# Altium integrated library TI Interface Line Transceiver.IntLib: 631 symbols (part 11 of 17)
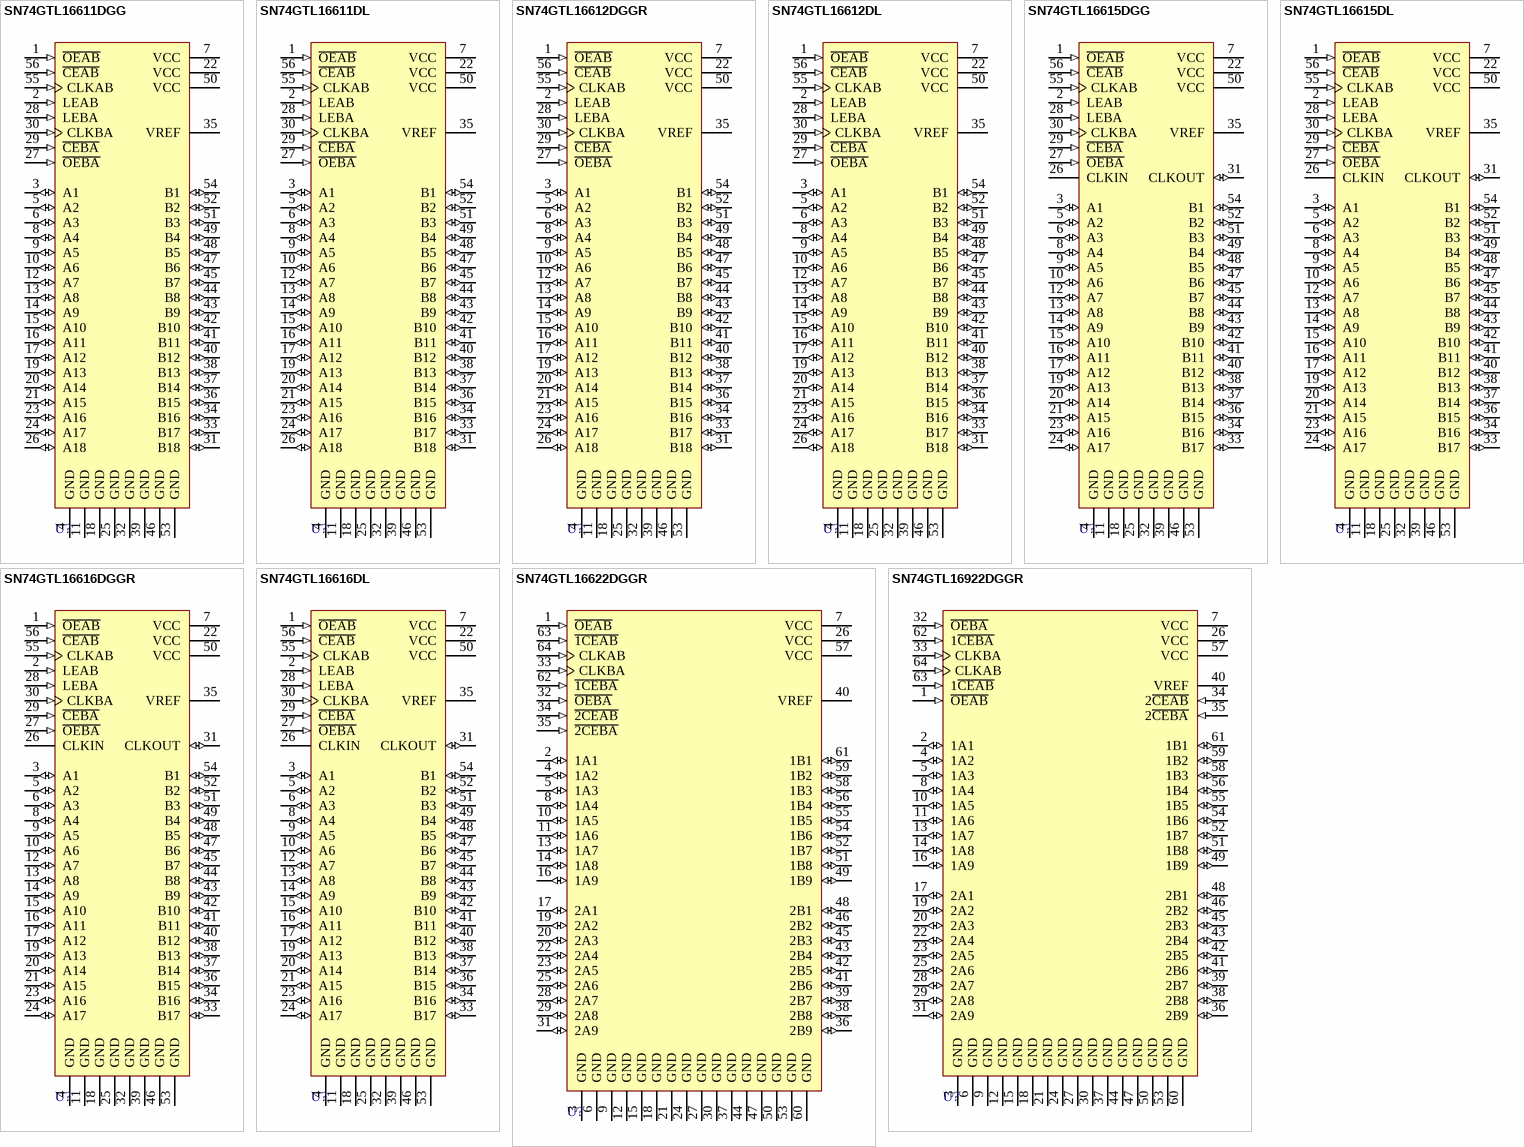
[diagram p49: symbols SN74GTL16611DGG to SN74GTL16922DGGR]

## SN74GTL16612DGGR
designator U?
18-Bit LVTTL-to-GTL/GTL + Universal Bus Transceiver; Published: 8-Jun-2000; LatestRevisionDate: 04-Mar-2005; LatestRevisionNote: Stylized 3D Model Added.; DatasheetVersion: Nov-1998; PackageVersion: Jan-1998; PackageReference: DGG056; Publisher: Altium Limited; PackageDescription: Shrink Small Outline; 56 Leads; Body Width 6.1 mm; Pitch 0.5 mm; ComponentLink1Description: Manufacturer Link; ComponentLink1URL: http://www.ti.com/; ComponentLink2Description: Datasheet; ComponentLink2URL: http://www-s.ti.com/sc/ds/sn74gtl16612.pdf
footprint DGG056 (Shrink Small Outline; 56 Leads; Body Width 6.1 mm; Pitch 0.5 mm)
3D model DGG056 (Shrink Small Outline; 56 Leads; Body Width 6.1 mm; Pitch 0.5 mm)
signal-integrity model SN74GTL16612DGGR
pins: 1 ~{OEAB} (in), 2 LEAB (in), 3 A1 (io), 4 GND (power), 5 A2 (io), 6 A3 (io), 7 VCC (power), 8 A4 (io), 9 A5 (io), 10 A6 (io), 11 GND (power), 12 A7 (io), 13 A8 (io), 14 A9 (io), 15 A10 (io), 16 A11 (io), 17 A12 (io), 18 GND (power), 19 A13 (io), 20 A14 (io), 21 A15 (io), 22 VCC (power), 23 A16 (io), 24 A17 (io), 25 GND (power), 26 A18 (io), 27 ~{OEBA} (in), 28 LEBA (in), 29 ~{CEBA} (in), 30 CLKBA (in), 31 B18 (io), 32 GND (power), 33 B17 (io), 34 B16 (io), 35 VREF (power), 36 B15 (io), 37 B14 (io), 38 B13 (io), 39 GND (power), 40 B12 (io), 41 B11 (io), 42 B10 (io), 43 B9 (io), 44 B8 (io), 45 B7 (io), 46 GND (power), 47 B6 (io), 48 B5 (io), 49 B4 (io), 50 VCC (power), 51 B3 (io), 52 B2 (io), 53 GND (power), 54 B1 (io), 55 CLKAB (in), 56 ~{CEAB} (in)

## SN74GTL16612DL
designator U?
18-Bit LVTTL-to-GTL/GTL + Universal Bus Transceiver; Published: 8-Jun-2000; LatestRevisionDate: 04-Mar-2005; LatestRevisionNote: Stylized 3D Model Added.; DatasheetVersion: Nov-1998; PackageVersion: Dec-2001; PackageReference: DL056; Publisher: Altium Limited; PackageDescription: SSOP; 56 Leads; Body Width 7.5 mm; Pitch 0.635 mm; Code_JEDEC: MO-118-AB; Code_IPC: SSO56; ComponentLink1Description: Manufacturer Link; ComponentLink1URL: http://www.ti.com/; ComponentLink2Description: Datasheet; ComponentLink2URL: http://www-s.ti.com/sc/ds/sn74gtl16612.pdf
footprint DL056 (SSOP; 56 Leads; Body Width 7.5 mm; Pitch 0.635 mm)
3D model DL056 (SSOP; 56 Leads; Body Width 7.5 mm; Pitch 0.635 mm)
signal-integrity model SN74GTL16612DL
pins: 1 ~{OEAB} (in), 2 LEAB (in), 3 A1 (io), 4 GND (power), 5 A2 (io), 6 A3 (io), 7 VCC (power), 8 A4 (io), 9 A5 (io), 10 A6 (io), 11 GND (power), 12 A7 (io), 13 A8 (io), 14 A9 (io), 15 A10 (io), 16 A11 (io), 17 A12 (io), 18 GND (power), 19 A13 (io), 20 A14 (io), 21 A15 (io), 22 VCC (power), 23 A16 (io), 24 A17 (io), 25 GND (power), 26 A18 (io), 27 ~{OEBA} (in), 28 LEBA (in), 29 ~{CEBA} (in), 30 CLKBA (in), 31 B18 (io), 32 GND (power), 33 B17 (io), 34 B16 (io), 35 VREF (power), 36 B15 (io), 37 B14 (io), 38 B13 (io), 39 GND (power), 40 B12 (io), 41 B11 (io), 42 B10 (io), 43 B9 (io), 44 B8 (io), 45 B7 (io), 46 GND (power), 47 B6 (io), 48 B5 (io), 49 B4 (io), 50 VCC (power), 51 B3 (io), 52 B2 (io), 53 GND (power), 54 B1 (io), 55 CLKAB (in), 56 ~{CEAB} (in)

## SN74GTL16615DGG
designator U?
17-Bit GTL/LVT Universal Bus Transceiver with Buffered Clock Outputs; Published: 8-Jun-2000; LatestRevisionDate: 04-Mar-2005; LatestRevisionNote: Stylized 3D Model Added.; DatasheetVersion: Mar-1994; PackageVersion: Jan-1998; PackageReference: DGG056; Publisher: Altium Limited; PackageDescription: Shrink Small Outline; 56 Leads; Body Width 6.1 mm; Pitch 0.5 mm; ComponentLink1Description: Manufacturer Link; ComponentLink1URL: http://www.ti.com/
footprint DGG056 (Shrink Small Outline; 56 Leads; Body Width 6.1 mm; Pitch 0.5 mm)
3D model DGG056 (Shrink Small Outline; 56 Leads; Body Width 6.1 mm; Pitch 0.5 mm)
signal-integrity model SN74GTL16615DGG
pins: 1 ~{OEAB} (in), 2 LEAB (in), 3 A1 (io), 4 GND (power), 5 A2 (io), 6 A3 (io), 7 VCC (power), 8 A4 (io), 9 A5 (io), 10 A6 (io), 11 GND (power), 12 A7 (io), 13 A8 (io), 14 A9 (io), 15 A10 (io), 16 A11 (io), 17 A12 (io), 18 GND (power), 19 A13 (io), 20 A14 (io), 21 A15 (io), 22 VCC (power), 23 A16 (io), 24 A17 (io), 25 GND (power), 26 CLKIN (hiz), 27 ~{OEBA} (in), 28 LEBA (in), 29 ~{CEBA} (in), 30 CLKBA (in), 31 CLKOUT (io), 32 GND (power), 33 B17 (io), 34 B16 (io), 35 VREF (power), 36 B15 (io), 37 B14 (io), 38 B13 (io), 39 GND (power), 40 B12 (io), 41 B11 (io), 42 B10 (io), 43 B9 (io), 44 B8 (io), 45 B7 (io), 46 GND (power), 47 B6 (io), 48 B5 (io), 49 B4 (io), 50 VCC (power), 51 B3 (io), 52 B2 (io), 53 GND (power), 54 B1 (io), 55 CLKAB (in), 56 ~{CEAB} (in)

## SN74GTL16615DL
designator U?
17-Bit GTL/LVT Universal Bus Transceiver with Buffered Clock Outputs; Published: 8-Jun-2000; LatestRevisionDate: 04-Mar-2005; LatestRevisionNote: Stylized 3D Model Added.; DatasheetVersion: Mar-1994; PackageVersion: Dec-2001; PackageReference: DL056; Publisher: Altium Limited; PackageDescription: SSOP; 56 Leads; Body Width 7.5 mm; Pitch 0.635 mm; Code_JEDEC: MO-118-AB; Code_IPC: SSO56; ComponentLink1Description: Manufacturer Link; ComponentLink1URL: http://www.ti.com/
footprint DL056 (SSOP; 56 Leads; Body Width 7.5 mm; Pitch 0.635 mm)
3D model DL056 (SSOP; 56 Leads; Body Width 7.5 mm; Pitch 0.635 mm)
signal-integrity model SN74GTL16615DL
pins: 1 ~{OEAB} (in), 2 LEAB (in), 3 A1 (io), 4 GND (power), 5 A2 (io), 6 A3 (io), 7 VCC (power), 8 A4 (io), 9 A5 (io), 10 A6 (io), 11 GND (power), 12 A7 (io), 13 A8 (io), 14 A9 (io), 15 A10 (io), 16 A11 (io), 17 A12 (io), 18 GND (power), 19 A13 (io), 20 A14 (io), 21 A15 (io), 22 VCC (power), 23 A16 (io), 24 A17 (io), 25 GND (power), 26 CLKIN (hiz), 27 ~{OEBA} (in), 28 LEBA (in), 29 ~{CEBA} (in), 30 CLKBA (in), 31 CLKOUT (io), 32 GND (power), 33 B17 (io), 34 B16 (io), 35 VREF (power), 36 B15 (io), 37 B14 (io), 38 B13 (io), 39 GND (power), 40 B12 (io), 41 B11 (io), 42 B10 (io), 43 B9 (io), 44 B8 (io), 45 B7 (io), 46 GND (power), 47 B6 (io), 48 B5 (io), 49 B4 (io), 50 VCC (power), 51 B3 (io), 52 B2 (io), 53 GND (power), 54 B1 (io), 55 CLKAB (in), 56 ~{CEAB} (in)

## SN74GTL16616DGGR
designator U?
17-Bit GTL/LVT Universal Bus Transceiver with Buffered Clock Outputs; Published: 8-Jun-2000; LatestRevisionDate: 04-Mar-2005; LatestRevisionNote: Stylized 3D Model Added.; DatasheetVersion: Nov-1998; PackageVersion: Jan-1998; PackageReference: DGG056; Publisher: Altium Limited; PackageDescription: Shrink Small Outline; 56 Leads; Body Width 6.1 mm; Pitch 0.5 mm; ComponentLink1Description: Manufacturer Link; ComponentLink1URL: http://www.ti.com/; ComponentLink2Description: Datasheet; ComponentLink2URL: http://www-s.ti.com/sc/ds/sn74gtl16616.pdf
footprint DGG056 (Shrink Small Outline; 56 Leads; Body Width 6.1 mm; Pitch 0.5 mm)
3D model DGG056 (Shrink Small Outline; 56 Leads; Body Width 6.1 mm; Pitch 0.5 mm)
signal-integrity model SN74GTL16616DGGR
pins: 1 ~{OEAB} (in), 2 LEAB (in), 3 A1 (io), 4 GND (power), 5 A2 (io), 6 A3 (io), 7 VCC (power), 8 A4 (io), 9 A5 (io), 10 A6 (io), 11 GND (power), 12 A7 (io), 13 A8 (io), 14 A9 (io), 15 A10 (io), 16 A11 (io), 17 A12 (io), 18 GND (power), 19 A13 (io), 20 A14 (io), 21 A15 (io), 22 VCC (power), 23 A16 (io), 24 A17 (io), 25 GND (power), 26 CLKIN (hiz), 27 ~{OEBA} (in), 28 LEBA (in), 29 ~{CEBA} (in), 30 CLKBA (in), 31 CLKOUT (io), 32 GND (power), 33 B17 (io), 34 B16 (io), 35 VREF (power), 36 B15 (io), 37 B14 (io), 38 B13 (io), 39 GND (power), 40 B12 (io), 41 B11 (io), 42 B10 (io), 43 B9 (io), 44 B8 (io), 45 B7 (io), 46 GND (power), 47 B6 (io), 48 B5 (io), 49 B4 (io), 50 VCC (power), 51 B3 (io), 52 B2 (io), 53 GND (power), 54 B1 (io), 55 CLKAB (in), 56 ~{CEAB} (in)

## SN74GTL16616DL
designator U?
17-Bit GTL/LVT Universal Bus Transceiver with Buffered Clock Outputs; Published: 8-Jun-2000; LatestRevisionDate: 04-Mar-2005; LatestRevisionNote: Stylized 3D Model Added.; DatasheetVersion: Nov-1998; PackageVersion: Dec-2001; PackageReference: DL056; Publisher: Altium Limited; PackageDescription: SSOP; 56 Leads; Body Width 7.5 mm; Pitch 0.635 mm; Code_JEDEC: MO-118-AB; Code_IPC: SSO56; ComponentLink1Description: Manufacturer Link; ComponentLink1URL: http://www.ti.com/; ComponentLink2Description: Datasheet; ComponentLink2URL: http://www-s.ti.com/sc/ds/sn74gtl16616.pdf
footprint DL056 (SSOP; 56 Leads; Body Width 7.5 mm; Pitch 0.635 mm)
3D model DL056 (SSOP; 56 Leads; Body Width 7.5 mm; Pitch 0.635 mm)
signal-integrity model SN74GTL16616DL
pins: 1 ~{OEAB} (in), 2 LEAB (in), 3 A1 (io), 4 GND (power), 5 A2 (io), 6 A3 (io), 7 VCC (power), 8 A4 (io), 9 A5 (io), 10 A6 (io), 11 GND (power), 12 A7 (io), 13 A8 (io), 14 A9 (io), 15 A10 (io), 16 A11 (io), 17 A12 (io), 18 GND (power), 19 A13 (io), 20 A14 (io), 21 A15 (io), 22 VCC (power), 23 A16 (io), 24 A17 (io), 25 GND (power), 26 CLKIN (hiz), 27 ~{OEBA} (in), 28 LEBA (in), 29 ~{CEBA} (in), 30 CLKBA (in), 31 CLKOUT (io), 32 GND (power), 33 B17 (io), 34 B16 (io), 35 VREF (power), 36 B15 (io), 37 B14 (io), 38 B13 (io), 39 GND (power), 40 B12 (io), 41 B11 (io), 42 B10 (io), 43 B9 (io), 44 B8 (io), 45 B7 (io), 46 GND (power), 47 B6 (io), 48 B5 (io), 49 B4 (io), 50 VCC (power), 51 B3 (io), 52 B2 (io), 53 GND (power), 54 B1 (io), 55 CLKAB (in), 56 ~{CEAB} (in)

## SN74GTL16622DGGR
designator U?
18-Bit LVTTL-to-GTL/GTL + Transceiver; ComponentAvailability: Obsolete; Published: 8-Jun-2000; LatestRevisionDate: 04-Mar-2005; LatestRevisionNote: Stylized 3D Model Added.; DatasheetVersion: Oct-1996; PackageVersion: Jan-1998; PackageReference: DGG064; Publisher: Altium Limited; PackageDescription: Shrink Small Outline; 64 Leads; Body Width 6.1 mm; Pitch 0.5 mm; ComponentLink1Description: Manufacturer Link; ComponentLink1URL: http://www.ti.com/; ComponentLink2Description: Datasheet; ComponentLink2URL: http://www-s.ti.com/sc/ds/sn74gtl16622.pdf
footprint DGG064 (Shrink Small Outline; 64 Leads; Body Width 6.1 mm; Pitch 0.5 mm)
3D model DGG064 (Shrink Small Outline; 64 Leads; Body Width 6.1 mm; Pitch 0.5 mm)
signal-integrity model SN74GTL16622DGGR
pins: 1 ~{OEAB} (in), 2 1A1 (io), 3 GND (power), 4 1A2 (io), 5 1A3 (io), 6 GND (power), 7 VCC (power), 8 1A4 (io), 9 GND (power), 10 1A5 (io), 11 1A6 (io), 12 GND (power), 13 1A7 (io), 14 1A8 (io), 15 GND (power), 16 1A9 (io), 17 2A1 (io), 18 GND (power), 19 2A2 (io), 20 2A3 (io), 21 GND (power), 22 2A4 (io), 23 2A5 (io), 24 GND (power), 25 2A6 (io), 26 VCC (power), 27 GND (power), 28 2A7 (io), 29 2A8 (io), 30 GND (power), 31 2A9 (io), 32 ~{OEBA} (in), 33 CLKBA (in), 34 ~{2CEAB} (in), 35 ~{2CEBA} (in), 36 2B9 (io), 37 GND (power), 38 2B8 (io), 39 2B7 (io), 40 VREF (power), 41 2B6 (io), 42 2B5 (io), 43 2B4 (io), 44 GND (power), 45 2B3 (io), 46 2B2 (io), 47 GND (power), 48 2B1 (io), 49 1B9 (io), 50 GND (power), 51 1B8 (io), 52 1B7 (io), 53 GND (power), 54 1B6 (io), 55 1B5 (io), 56 1B4 (io), 57 VCC (power), 58 1B3 (io), 59 1B2 (io), 60 GND (power), 61 1B1 (io), 62 ~{1CEBA} (in), 63 ~{1CEAB} (in), 64 CLKAB (in)

## SN74GTL16922DGGR
designator U?
18-Bit LVTTL-to-GTL/GTL + Bus Transceiver; Published: 8-Jun-2000; LatestRevisionDate: 04-Mar-2005; LatestRevisionNote: Stylized 3D Model Added.; DatasheetVersion: Nov-1996; PackageVersion: Jan-1998; PackageReference: DGG064; Publisher: Altium Limited; PackageDescription: Shrink Small Outline; 64 Leads; Body Width 6.1 mm; Pitch 0.5 mm; ComponentLink1Description: Manufacturer Link; ComponentLink1URL: http://www.ti.com/
footprint DGG064 (Shrink Small Outline; 64 Leads; Body Width 6.1 mm; Pitch 0.5 mm)
3D model DGG064 (Shrink Small Outline; 64 Leads; Body Width 6.1 mm; Pitch 0.5 mm)
signal-integrity model SN74GTL16922DGGR
pins: 1 ~{OEAB} (in), 2 1A1 (io), 3 GND (power), 4 1A2 (io), 5 1A3 (io), 6 GND (power), 7 VCC (power), 8 1A4 (io), 9 GND (power), 10 1A5 (io), 11 1A6 (io), 12 GND (power), 13 1A7 (io), 14 1A8 (io), 15 GND (power), 16 1A9 (io), 17 2A1 (io), 18 GND (power), 19 2A2 (io), 20 2A3 (io), 21 GND (power), 22 2A4 (io), 23 2A5 (io), 24 GND (power), 25 2A6 (io), 26 VCC (power), 27 GND (power), 28 2A7 (io), 29 2A8 (io), 30 GND (power), 31 2A9 (io), 32 ~{OEBA} (in), 33 CLKBA (in), 34 2~{CEAB} (in), 35 2~{CEBA} (in), 36 2B9 (io), 37 GND (power), 38 2B8 (io), 39 2B7 (io), 40 VREF (power), 41 2B6 (io), 42 2B5 (io), 43 2B4 (io), 44 GND (power), 45 2B3 (io), 46 2B2 (io), 47 GND (power), 48 2B1 (io), 49 1B9 (io), 50 GND (power), 51 1B8 (io), 52 1B7 (io), 53 GND (power), 54 1B6 (io), 55 1B5 (io), 56 1B4 (io), 57 VCC (power), 58 1B3 (io), 59 1B2 (io), 60 GND (power), 61 1B1 (io), 62 1~{CEBA} (in), 63 1~{CEAB} (in), 64 CLKAB (in)

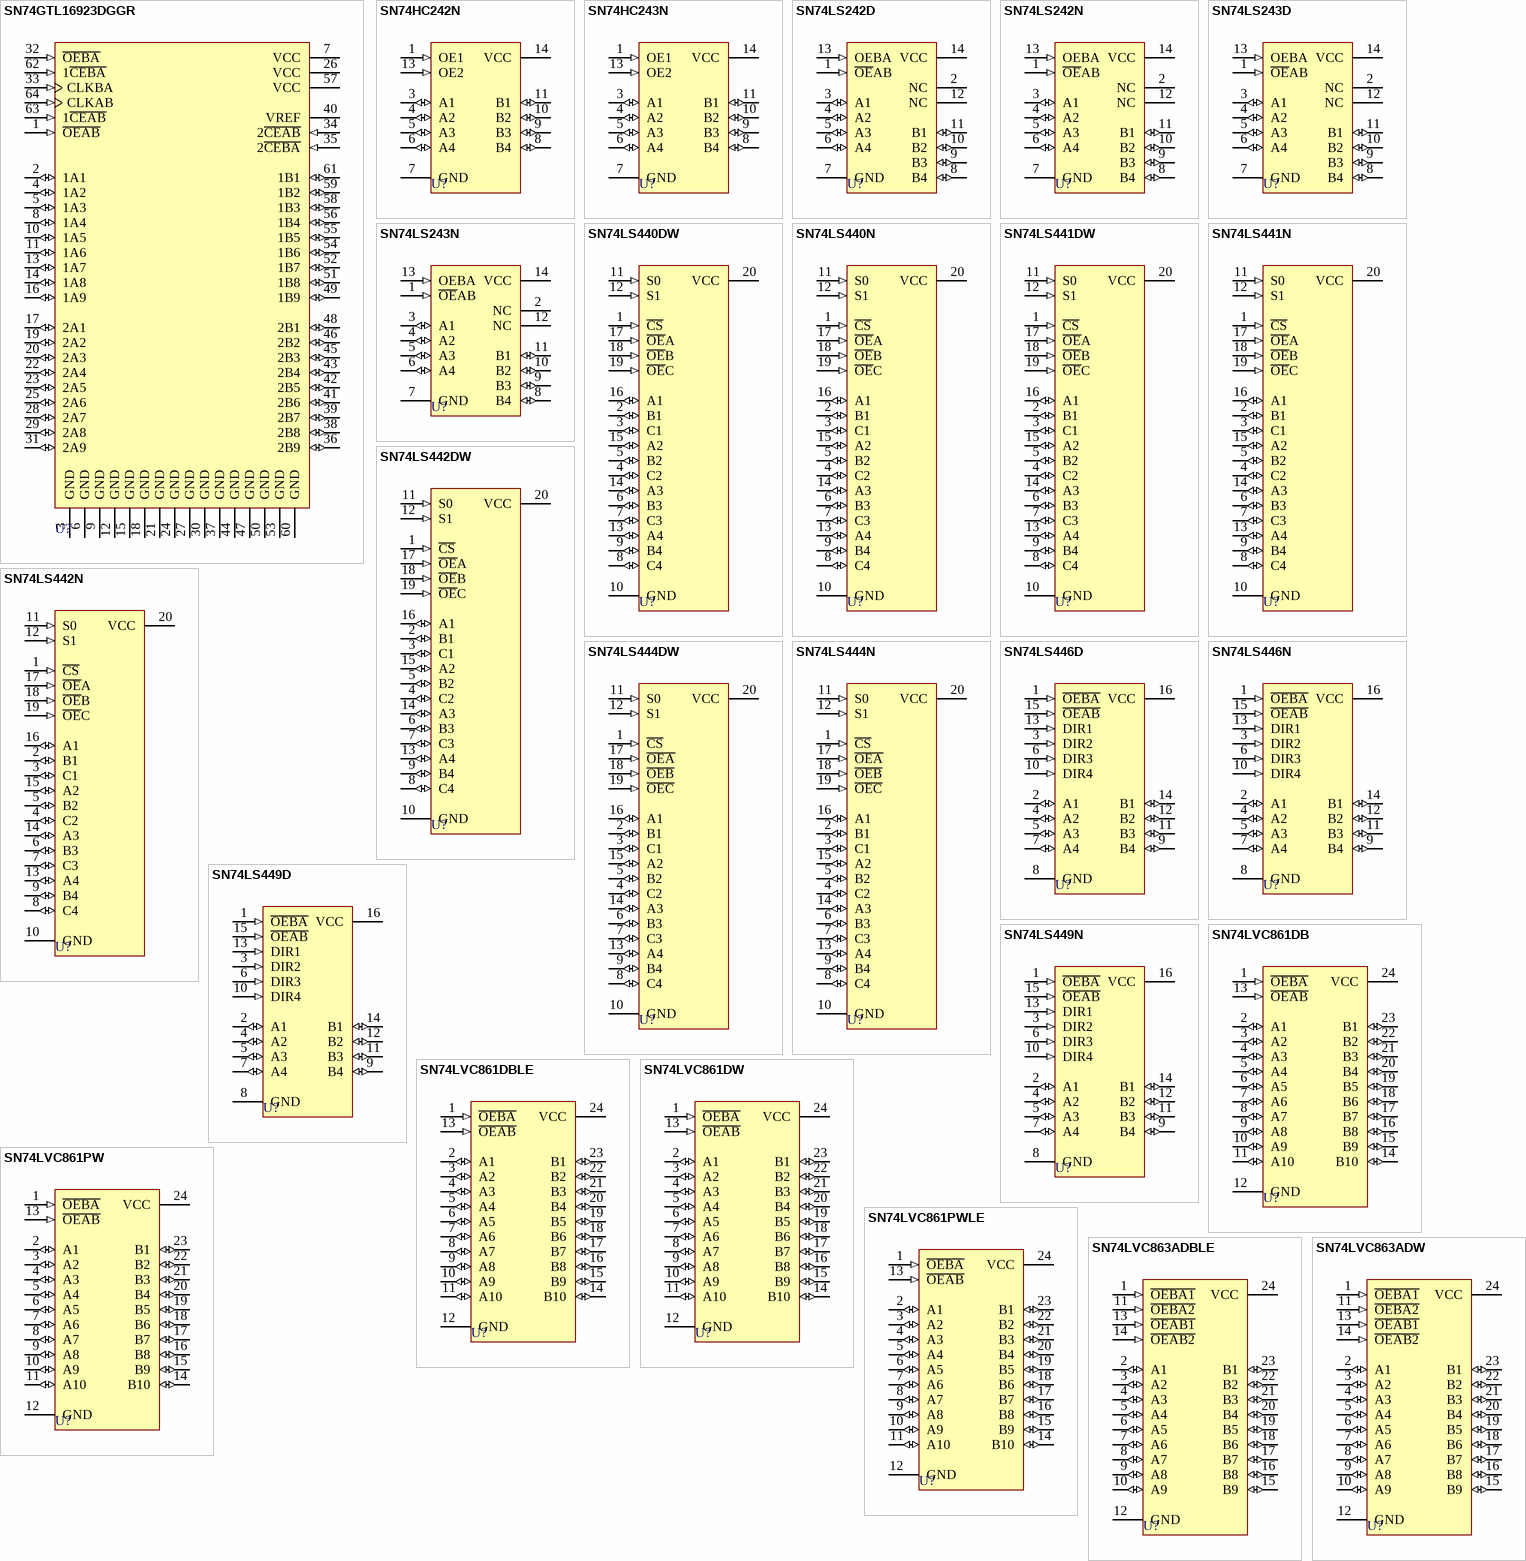
[diagram p24: symbols SN74GTL16923DGGR to SN74LVC863ADW]

## SN74GTL16923DGGR
designator U?
18-Bit LVTTL-to-GTL/GTLL +  Bus Transceiver; Published: 8-Jun-2000; LatestRevisionDate: 04-Mar-2005; LatestRevisionNote: Stylized 3D Model Added.; DatasheetVersion: Jul-1997; PackageVersion: Jan-1998; PackageReference: DGG064; Publisher: Altium Limited; PackageDescription: Shrink Small Outline; 64 Leads; Body Width 6.1 mm; Pitch 0.5 mm; ComponentLink1Description: Manufacturer Link; ComponentLink1URL: http://www.ti.com/; ComponentLink2Description: Datasheet; ComponentLink2URL: http://www-s.ti.com/sc/ds/sn74gtl16923.pdf
footprint DGG064 (Shrink Small Outline; 64 Leads; Body Width 6.1 mm; Pitch 0.5 mm)
3D model DGG064 (Shrink Small Outline; 64 Leads; Body Width 6.1 mm; Pitch 0.5 mm)
signal-integrity model SN74GTL16923DGGR
pins: 1 ~{OEAB} (in), 2 1A1 (io), 3 GND (power), 4 1A2 (io), 5 1A3 (io), 6 GND (power), 7 VCC (power), 8 1A4 (io), 9 GND (power), 10 1A5 (io), 11 1A6 (io), 12 GND (power), 13 1A7 (io), 14 1A8 (io), 15 GND (power), 16 1A9 (io), 17 2A1 (io), 18 GND (power), 19 2A2 (io), 20 2A3 (io), 21 GND (power), 22 2A4 (io), 23 2A5 (io), 24 GND (power), 25 2A6 (io), 26 VCC (power), 27 GND (power), 28 2A7 (io), 29 2A8 (io), 30 GND (power), 31 2A9 (io), 32 ~{OEBA} (in), 33 CLKBA (in), 34 2~{CEAB} (in), 35 2~{CEBA} (in), 36 2B9 (io), 37 GND (power), 38 2B8 (io), 39 2B7 (io), 40 VREF (power), 41 2B6 (io), 42 2B5 (io), 43 2B4 (io), 44 GND (power), 45 2B3 (io), 46 2B2 (io), 47 GND (power), 48 2B1 (io), 49 1B9 (io), 50 GND (power), 51 1B8 (io), 52 1B7 (io), 53 GND (power), 54 1B6 (io), 55 1B5 (io), 56 1B4 (io), 57 VCC (power), 58 1B3 (io), 59 1B2 (io), 60 GND (power), 61 1B1 (io), 62 1~{CEBA} (in), 63 1~{CEAB} (in), 64 CLKAB (in)

## SN74HC242N
designator U?
Quadruple Bus Transceiver with 3-State Outputs; Note: Pins 2 and 12 are not connected; Published: 8-Jun-2000; LatestRevisionDate: 04-Mar-2005; LatestRevisionNote: Stylized 3D Model Added.; DatasheetVersion: Jun-1989; PackageVersion: Oct-1995; PackageReference: N014D; Publisher: Altium Limited; PackageDescription: DIP; 14 Leads; Row Spacing 7.62 mm; Pitch 2.54 mm; ComponentLink1Description: Manufacturer Link; ComponentLink1URL: http://www.ti.com/
footprint N014D (DIP; 14 Leads; Row Spacing 7.62 mm; Pitch 2.54 mm)
3D model N014 (DIP; 14 Leads; Row Spacing 7.62 mm; Pitch 2.54 mm)
signal-integrity model SN74HC242N
pins: 1 OE1 (in), 3 A1 (io), 4 A2 (io), 5 A3 (io), 6 A4 (io), 7 GND (power), 8 B4 (io), 9 B3 (io), 10 B2 (io), 11 B1 (io), 13 OE2 (in), 14 VCC (power)

## SN74HC243N
designator U?
Quadruple Bus Transceiver with 3-State Outputs; Note: Pins 2 and 12 are not connected; Published: 8-Jun-2000; LatestRevisionDate: 04-Mar-2005; LatestRevisionNote: Stylized 3D Model Added.; DatasheetVersion: Jun-1989; PackageVersion: Oct-1995; PackageReference: N014D; Publisher: Altium Limited; PackageDescription: DIP; 14 Leads; Row Spacing 7.62 mm; Pitch 2.54 mm; ComponentLink1Description: Manufacturer Link; ComponentLink1URL: http://www.ti.com/
footprint N014D (DIP; 14 Leads; Row Spacing 7.62 mm; Pitch 2.54 mm)
3D model N014 (DIP; 14 Leads; Row Spacing 7.62 mm; Pitch 2.54 mm)
signal-integrity model SN74HC243N
pins: 1 OE1 (in), 3 A1 (io), 4 A2 (io), 5 A3 (io), 6 A4 (io), 7 GND (power), 8 B4 (io), 9 B3 (io), 10 B2 (io), 11 B1 (io), 13 OE2 (in), 14 VCC (power)

## SN74LS242D
designator U?
Quadruple Bus Transceiver; Note: Pins 2 and 12 are NC.; ComponentAvailability: Obsolete; Published: 8-Jun-2000; LatestRevisionDate: 13-Apr-2006; LatestRevisionNote: IPC-7351 Footprint Added.; DatasheetVersion: Mar-1988; PackageVersion: Jan-1998; PackageReference: D014; Publisher: Altium Limited; PackageDescription: 14-Pin Small Outline Integrated Circuit 1.27 mm Pitch; Code_IPC: SOIC127P600-14; ComponentLink1Description: Manufacturer Link; ComponentLink1URL: http://www.ti.com/; ComponentLink2Description: Datasheet; ComponentLink2URL: http://www-s.ti.com/sc/ds/sn74ls242.pdf
footprint D014_N (SOIC, 14-Leads, Body 8.7x3.9mm, Pitch 1.27mm, IPC Medium Density)
footprint D014_L (SOIC, 14-Leads, Body 8.7x3.9mm, Pitch 1.27mm, IPC High Density)
footprint D014_M (SOIC, 14-Leads, Body 8.7x3.9mm, Pitch 1.27mm, IPC Low Density)
3D model D014 (14-Pin Small Outline Integrated Circuit 1.27 mm Pitch)
simulation model SN74LS242 (SIMCODE)
signal-integrity model SN74LS242D
pins: 1 ~{OE}AB (in), 2 NC, 3 A1 (io), 4 A2 (io), 5 A3 (io), 6 A4 (io), 7 GND (power), 8 B4 (io), 9 B3 (io), 10 B2 (io), 11 B1 (io), 12 NC, 13 OEBA (in), 14 VCC (power)

## SN74LS242N
designator U?
Quadruple Bus Transceiver; Note: Pins 2 and 12 are NC.; ComponentAvailability: Obsolete; Published: 8-Jun-2000; LatestRevisionDate: 04-Mar-2005; LatestRevisionNote: Stylized 3D Model Added.; DatasheetVersion: Mar-1988; PackageVersion: Oct-1995; PackageReference: N014; Publisher: Altium Limited; PackageDescription: DIP; 14 Leads; Row Spacing 7.62 mm; Pitch 2.54 mm; ComponentLink1Description: Manufacturer Link; ComponentLink1URL: http://www.ti.com/; ComponentLink2Description: Datasheet; ComponentLink2URL: http://www-s.ti.com/sc/ds/sn74ls242.pdf
footprint N014 (DIP; 14 Leads; Row Spacing 7.62 mm; Pitch 2.54 mm)
3D model N014 (DIP; 14 Leads; Row Spacing 7.62 mm; Pitch 2.54 mm)
simulation model SN74LS242 (SIMCODE)
signal-integrity model SN74LS242N
pins: 1 ~{OE}AB (in), 2 NC, 3 A1 (io), 4 A2 (io), 5 A3 (io), 6 A4 (io), 7 GND (power), 8 B4 (io), 9 B3 (io), 10 B2 (io), 11 B1 (io), 12 NC, 13 OEBA (in), 14 VCC (power)

## SN74LS243D
designator U?
Quadruple Bus Transceiver; Note: Pins 2 and 12 are NC.; Published: 8-Jun-2000; LatestRevisionDate: 13-Apr-2006; LatestRevisionNote: IPC-7351 Footprint Added.; DatasheetVersion: Mar-1988; PackageVersion: Jan-1998; PackageReference: D014; Publisher: Altium Limited; PackageDescription: 14-Pin Small Outline Integrated Circuit 1.27 mm Pitch; Code_IPC: SOIC127P600-14; ComponentLink1Description: Manufacturer Link; ComponentLink1URL: http://www.ti.com/; ComponentLink2Description: Datasheet; ComponentLink2URL: http://www-s.ti.com/sc/ds/sn74ls242.pdf
footprint D014_N (SOIC, 14-Leads, Body 8.7x3.9mm, Pitch 1.27mm, IPC Medium Density)
footprint D014_L (SOIC, 14-Leads, Body 8.7x3.9mm, Pitch 1.27mm, IPC High Density)
footprint D014_M (SOIC, 14-Leads, Body 8.7x3.9mm, Pitch 1.27mm, IPC Low Density)
3D model D014 (14-Pin Small Outline Integrated Circuit 1.27 mm Pitch)
simulation model SN74LS243 (SIMCODE)
signal-integrity model SN74LS243D
pins: 1 ~{OE}AB (in), 2 NC, 3 A1 (io), 4 A2 (io), 5 A3 (io), 6 A4 (io), 7 GND (power), 8 B4 (io), 9 B3 (io), 10 B2 (io), 11 B1 (io), 12 NC, 13 OEBA (in), 14 VCC (power)

## SN74LS243N
designator U?
Quadruple Bus Transceiver; Note: Pins 2 and 12 are NC.; Published: 8-Jun-2000; LatestRevisionDate: 04-Mar-2005; LatestRevisionNote: Stylized 3D Model Added.; DatasheetVersion: Mar-1988; PackageVersion: Oct-1995; PackageReference: N014; Publisher: Altium Limited; PackageDescription: DIP; 14 Leads; Row Spacing 7.62 mm; Pitch 2.54 mm; ComponentLink1Description: Manufacturer Link; ComponentLink1URL: http://www.ti.com/; ComponentLink2Description: Datasheet; ComponentLink2URL: http://www-s.ti.com/sc/ds/sn74ls242.pdf
footprint N014 (DIP; 14 Leads; Row Spacing 7.62 mm; Pitch 2.54 mm)
3D model N014 (DIP; 14 Leads; Row Spacing 7.62 mm; Pitch 2.54 mm)
simulation model SN74LS243 (SIMCODE)
signal-integrity model SN74LS243N
pins: 1 ~{OE}AB (in), 2 NC, 3 A1 (io), 4 A2 (io), 5 A3 (io), 6 A4 (io), 7 GND (power), 8 B4 (io), 9 B3 (io), 10 B2 (io), 11 B1 (io), 12 NC, 13 OEBA (in), 14 VCC (power)

## SN74LS440DW
designator U?
Quadruple Tridirectional Bus Transceiver; ComponentAvailability: Obsolete; Published: 8-Jun-2000; LatestRevisionDate: 13-Apr-2006; LatestRevisionNote: IPC-7351 Footprint Added.; DatasheetVersion: Mar-1988; PackageVersion: Mar-2000; PackageReference: DW020; Publisher: Altium Limited; PackageDescription: 20-Pin Plastic Small Outline Integrated Circuit 1.27 mm Pitch; Code_JEDEC: MS-013; Code_IPC: SOIC127P1030-20; ComponentLink1Description: Manufacturer Link; ComponentLink1URL: http://www.ti.com/; ComponentLink2Description: Datasheet; ComponentLink2URL: http://www-s.ti.com/sc/ds/sn74ls440.pdf; ComponentLink3Description: Discontinuation Notice; ComponentLink3URL: http://focus.ti.com/docs/prod/folders/print/sn74ls440.html
footprint DW020_N (SOIC, 20-Leads, Body 12.8x7.5mm, Pitch 1.27mm, IPC Medium Density)
footprint DW020_L (SOIC, 20-Leads, Body 12.8x7.5mm, Pitch 1.27mm, IPC High Density)
footprint DW020_M (SOIC, 20-Leads, Body 12.8x7.5mm, Pitch 1.27mm, IPC Low Density)
3D model DW020 (20-Pin Plastic Small Outline Integrated Circuit 1.27 mm Pitch)
signal-integrity model SN74LS440DW
pins: 1 ~{CS} (in), 2 B1 (io), 3 C1 (io), 4 C2 (io), 5 B2 (io), 6 B3 (io), 7 C3 (io), 8 C4 (io), 9 B4 (io), 10 GND (power), 11 S0 (in), 12 S1 (in), 13 A4 (io), 14 A3 (io), 15 A2 (io), 16 A1 (io), 17 ~{OE}A (in), 18 ~{OE}B (in), 19 ~{OE}C (in), 20 VCC (power)

## SN74LS440N
designator U?
Quadruple Tridirectional Bus Transceiver; ComponentAvailability: Obsolete; Published: 8-Jun-2000; LatestRevisionDate: 04-Mar-2005; LatestRevisionNote: Stylized 3D Model Added.; DatasheetVersion: Mar-1988; PackageVersion: Oct-1995; PackageReference: N020; Publisher: Altium Limited; PackageDescription: DIP; 20 Leads; Row Spacing 7.62 mm; Pitch 2.54 mm; ComponentLink1Description: Manufacturer Link; ComponentLink1URL: http://www.ti.com/; ComponentLink2Description: Datasheet; ComponentLink2URL: http://www-s.ti.com/sc/ds/sn74ls440.pdf; ComponentLink3Description: Discontinuation Notice; ComponentLink3URL: http://focus.ti.com/docs/prod/folders/print/sn74ls440.html
footprint N020 (DIP; 20 Leads; Row Spacing 7.62 mm; Pitch 2.54 mm)
3D model J020 (DIP; 20 Leads; Row Spacing 7.62 mm; Pitch 2.54 mm)
signal-integrity model SN74LS440N
pins: 1 ~{CS} (in), 2 B1 (io), 3 C1 (io), 4 C2 (io), 5 B2 (io), 6 B3 (io), 7 C3 (io), 8 C4 (io), 9 B4 (io), 10 GND (power), 11 S0 (in), 12 S1 (in), 13 A4 (io), 14 A3 (io), 15 A2 (io), 16 A1 (io), 17 ~{OE}A (in), 18 ~{OE}B (in), 19 ~{OE}C (in), 20 VCC (power)

## SN74LS441DW
designator U?
Quadruple Tridirectional Bus Transceiver; ComponentAvailability: Obsolete; Published: 8-Jun-2000; LatestRevisionDate: 13-Apr-2006; LatestRevisionNote: IPC-7351 Footprint Added.; DatasheetVersion: Mar-1988; PackageVersion: Mar-2000; PackageReference: DW020; Publisher: Altium Limited; PackageDescription: 20-Pin Plastic Small Outline Integrated Circuit 1.27 mm Pitch; Code_JEDEC: MS-013; Code_IPC: SOIC127P1030-20; ComponentLink1Description: Manufacturer Link; ComponentLink1URL: http://www.ti.com/; ComponentLink2Description: Datasheet; ComponentLink2URL: http://www-s.ti.com/sc/ds/sn74ls440.pdf; ComponentLink3Description: Discontinuation Notice; ComponentLink3URL: http://focus.ti.com/docs/prod/folders/print/sn74ls441.html
footprint DW020_N (SOIC, 20-Leads, Body 12.8x7.5mm, Pitch 1.27mm, IPC Medium Density)
footprint DW020_L (SOIC, 20-Leads, Body 12.8x7.5mm, Pitch 1.27mm, IPC High Density)
footprint DW020_M (SOIC, 20-Leads, Body 12.8x7.5mm, Pitch 1.27mm, IPC Low Density)
3D model DW020 (20-Pin Plastic Small Outline Integrated Circuit 1.27 mm Pitch)
signal-integrity model SN74LS441DW
pins: 1 ~{CS} (in), 2 B1 (io), 3 C1 (io), 4 C2 (io), 5 B2 (io), 6 B3 (io), 7 C3 (io), 8 C4 (io), 9 B4 (io), 10 GND (power), 11 S0 (in), 12 S1 (in), 13 A4 (io), 14 A3 (io), 15 A2 (io), 16 A1 (io), 17 ~{OE}A (in), 18 ~{OE}B (in), 19 ~{OE}C (in), 20 VCC (power)

## SN74LS441N
designator U?
Quadruple Tridirectional Bus Transceiver; ComponentAvailability: Obsolete; Published: 8-Jun-2000; LatestRevisionDate: 04-Mar-2005; LatestRevisionNote: Stylized 3D Model Added.; DatasheetVersion: Mar-1988; PackageVersion: Oct-1995; PackageReference: N020; Publisher: Altium Limited; PackageDescription: DIP; 20 Leads; Row Spacing 7.62 mm; Pitch 2.54 mm; ComponentLink1Description: Manufacturer Link; ComponentLink1URL: http://www.ti.com/; ComponentLink2Description: Datasheet; ComponentLink2URL: http://www-s.ti.com/sc/ds/sn74ls440.pdf; ComponentLink3Description: Discontinuation Notice; ComponentLink3URL: http://focus.ti.com/docs/prod/folders/print/sn74ls441.html
footprint N020 (DIP; 20 Leads; Row Spacing 7.62 mm; Pitch 2.54 mm)
3D model J020 (DIP; 20 Leads; Row Spacing 7.62 mm; Pitch 2.54 mm)
signal-integrity model SN74LS441N
pins: 1 ~{CS} (in), 2 B1 (io), 3 C1 (io), 4 C2 (io), 5 B2 (io), 6 B3 (io), 7 C3 (io), 8 C4 (io), 9 B4 (io), 10 GND (power), 11 S0 (in), 12 S1 (in), 13 A4 (io), 14 A3 (io), 15 A2 (io), 16 A1 (io), 17 ~{OE}A (in), 18 ~{OE}B (in), 19 ~{OE}C (in), 20 VCC (power)

## SN74LS442DW
designator U?
Quadruple Tridirectional Bus Transceiver; ComponentAvailability: Obsolete; Published: 8-Jun-2000; LatestRevisionDate: 13-Apr-2006; LatestRevisionNote: IPC-7351 Footprint Added.; DatasheetVersion: Mar-1988; PackageVersion: Mar-2000; PackageReference: DW020; Publisher: Altium Limited; PackageDescription: 20-Pin Plastic Small Outline Integrated Circuit 1.27 mm Pitch; Code_JEDEC: MS-013; Code_IPC: SOIC127P1030-20; ComponentLink1Description: Manufacturer Link; ComponentLink1URL: http://www.ti.com/; ComponentLink2Description: Datasheet; ComponentLink2URL: http://www-s.ti.com/sc/ds/sn74ls440.pdf; ComponentLink3Description: Discontinuation Notice; ComponentLink3URL: http://focus.ti.com/docs/prod/folders/print/sn74ls442.html
footprint DW020_N (SOIC, 20-Leads, Body 12.8x7.5mm, Pitch 1.27mm, IPC Medium Density)
footprint DW020_L (SOIC, 20-Leads, Body 12.8x7.5mm, Pitch 1.27mm, IPC High Density)
footprint DW020_M (SOIC, 20-Leads, Body 12.8x7.5mm, Pitch 1.27mm, IPC Low Density)
3D model DW020 (20-Pin Plastic Small Outline Integrated Circuit 1.27 mm Pitch)
signal-integrity model SN74LS442DW
pins: 1 ~{CS} (in), 2 B1 (io), 3 C1 (io), 4 C2 (io), 5 B2 (io), 6 B3 (io), 7 C3 (io), 8 C4 (io), 9 B4 (io), 10 GND (power), 11 S0 (in), 12 S1 (in), 13 A4 (io), 14 A3 (io), 15 A2 (io), 16 A1 (io), 17 ~{OE}A (in), 18 ~{OE}B (in), 19 ~{OE}C (in), 20 VCC (power)

## SN74LS442N
designator U?
Quadruple Tridirectional Bus Transceiver; Published: 8-Jun-2000; LatestRevisionDate: 04-Mar-2005; LatestRevisionNote: Stylized 3D Model Added.; DatasheetVersion: Mar-1988; PackageVersion: Oct-1995; PackageReference: N020; Publisher: Altium Limited; PackageDescription: DIP; 20 Leads; Row Spacing 7.62 mm; Pitch 2.54 mm; ComponentLink1Description: Manufacturer Link; ComponentLink1URL: http://www.ti.com/; ComponentLink2Description: Datasheet; ComponentLink2URL: http://www-s.ti.com/sc/ds/sn74ls440.pdf; ComponentLink3Description: URL Link1; ComponentLink3URL: http://focus.ti.com/docs/prod/folders/print/sn74ls442.html
footprint N020 (DIP; 20 Leads; Row Spacing 7.62 mm; Pitch 2.54 mm)
3D model J020 (DIP; 20 Leads; Row Spacing 7.62 mm; Pitch 2.54 mm)
signal-integrity model SN74LS442N
pins: 1 ~{CS} (in), 2 B1 (io), 3 C1 (io), 4 C2 (io), 5 B2 (io), 6 B3 (io), 7 C3 (io), 8 C4 (io), 9 B4 (io), 10 GND (power), 11 S0 (in), 12 S1 (in), 13 A4 (io), 14 A3 (io), 15 A2 (io), 16 A1 (io), 17 ~{OE}A (in), 18 ~{OE}B (in), 19 ~{OE}C (in), 20 VCC (power)

## SN74LS444DW
designator U?
Quadruple Tridirectional Bus Transceiver; ComponentAvailability: Obsolete; Published: 8-Jun-2000; LatestRevisionDate: 13-Apr-2006; LatestRevisionNote: IPC-7351 Footprint Added.; DatasheetVersion: Mar-1988; PackageVersion: Mar-2000; PackageReference: DW020; Publisher: Altium Limited; PackageDescription: 20-Pin Plastic Small Outline Integrated Circuit 1.27 mm Pitch; Code_JEDEC: MS-013; Code_IPC: SOIC127P1030-20; ComponentLink1Description: Manufacturer Link; ComponentLink1URL: http://www.ti.com/; ComponentLink2Description: Datasheet; ComponentLink2URL: http://www-s.ti.com/sc/ds/sn74ls440.pdf; ComponentLink3Description: Discontinuation Notice; ComponentLink3URL: http://focus.ti.com/docs/prod/folders/print/sn74ls444.html
footprint DW020_N (SOIC, 20-Leads, Body 12.8x7.5mm, Pitch 1.27mm, IPC Medium Density)
footprint DW020_L (SOIC, 20-Leads, Body 12.8x7.5mm, Pitch 1.27mm, IPC High Density)
footprint DW020_M (SOIC, 20-Leads, Body 12.8x7.5mm, Pitch 1.27mm, IPC Low Density)
3D model DW020 (20-Pin Plastic Small Outline Integrated Circuit 1.27 mm Pitch)
signal-integrity model SN74LS444DW
pins: 1 ~{CS} (in), 2 B1 (io), 3 C1 (io), 4 C2 (io), 5 B2 (io), 6 B3 (io), 7 C3 (io), 8 C4 (io), 9 B4 (io), 10 GND (power), 11 S0 (in), 12 S1 (in), 13 A4 (io), 14 A3 (io), 15 A2 (io), 16 A1 (io), 17 ~{OEA} (in), 18 ~{OEB} (in), 19 ~{OEC} (in), 20 VCC (power)

## SN74LS444N
designator U?
Quadruple Tridirectional Bus Transceiver; ComponentAvailability: Obsolete; Published: 8-Jun-2000; LatestRevisionDate: 04-Mar-2005; LatestRevisionNote: Stylized 3D Model Added.; DatasheetVersion: Mar-1988; PackageVersion: Oct-1995; PackageReference: N020; Publisher: Altium Limited; PackageDescription: DIP; 20 Leads; Row Spacing 7.62 mm; Pitch 2.54 mm; ComponentLink1Description: Manufacturer Link; ComponentLink1URL: http://www.ti.com/; ComponentLink2Description: Datasheet; ComponentLink2URL: http://www-s.ti.com/sc/ds/sn74ls440.pdf; ComponentLink3Description: Discontinuation Notice; ComponentLink3URL: http://focus.ti.com/docs/prod/folders/print/sn74ls444.html
footprint N020 (DIP; 20 Leads; Row Spacing 7.62 mm; Pitch 2.54 mm)
3D model J020 (DIP; 20 Leads; Row Spacing 7.62 mm; Pitch 2.54 mm)
signal-integrity model SN74LS444N
pins: 1 ~{CS} (in), 2 B1 (io), 3 C1 (io), 4 C2 (io), 5 B2 (io), 6 B3 (io), 7 C3 (io), 8 C4 (io), 9 B4 (io), 10 GND (power), 11 S0 (in), 12 S1 (in), 13 A4 (io), 14 A3 (io), 15 A2 (io), 16 A1 (io), 17 ~{OEA} (in), 18 ~{OEB} (in), 19 ~{OEC} (in), 20 VCC (power)

## SN74LS446D
designator U?
Quadruple Bus Transceiver with Individual Direction Controls; Published: 8-Jun-2000; LatestRevisionDate: 13-Apr-2006; LatestRevisionNote: IPC-7351 Footprint Added.; DatasheetVersion: Mar-1988; PackageVersion: Jan-1998; PackageReference: D016; Publisher: Altium Limited; PackageDescription: 16-Pin Small Outline Integrated Circuit 1.27 mm Pitch; Code_IPC: SOIC127P600-16; ComponentLink1Description: Manufacturer Link; ComponentLink1URL: http://www.ti.com/; ComponentLink2Description: Datasheet; ComponentLink2URL: http://www-s.ti.com/sc/ds/sn74ls446.pdf; ComponentLink3Description: URL Link1; ComponentLink3URL: http://focus.ti.com/docs/prod/folders/print/sn74ls446.html
footprint D016_N (SOIC, 16-Leads, Body 9.9x3.9mm, Pitch 1.27mm, IPC Medium Density)
footprint D016_L (SOIC, 16-Leads, Body 9.9x3.9mm, Pitch 1.27mm, IPC High Density)
footprint D016_M (SOIC, 16-Leads, Body 9.9x3.9mm, Pitch 1.27mm, IPC Low Density)
3D model D016 (16-Pin Small Outline Integrated Circuit 1.27 mm Pitch)
signal-integrity model SN74LS446D
pins: 1 ~{OEBA} (in), 2 A1 (io), 3 DIR2 (in), 4 A2 (io), 5 A3 (io), 6 DIR3 (in), 7 A4 (io), 8 GND (power), 9 B4 (io), 10 DIR4 (in), 11 B3 (io), 12 B2 (io), 13 DIR1 (in), 14 B1 (io), 15 ~{OEAB} (in), 16 VCC (power)

## SN74LS446N
designator U?
Quadruple Bus Transceiver with Individual Direction Controls; ComponentAvailability: Obsolete; Published: 8-Jun-2000; LatestRevisionDate: 04-Mar-2005; LatestRevisionNote: Stylized 3D Model Added.; DatasheetVersion: Mar-1988; PackageVersion: Oct-1995; PackageReference: N016; Publisher: Altium Limited; PackageDescription: DIP; 16 Leads; Row Spacing 7.62 mm; Pitch 2.54 mm; Code_JEDEC: MS-001-BB; ComponentLink1Description: Manufacturer Link; ComponentLink1URL: http://www.ti.com/; ComponentLink2Description: Datasheet; ComponentLink2URL: http://www-s.ti.com/sc/ds/sn74ls446.pdf; ComponentLink3Description: Discontinuation Notice; ComponentLink3URL: http://focus.ti.com/docs/prod/folders/print/sn74ls446.html
footprint N016 (DIP; 16 Leads; Row Spacing 7.62 mm; Pitch 2.54 mm)
3D model N016 (DIP; 16 Leads; Row Spacing 7.62 mm; Pitch 2.54 mm)
signal-integrity model SN74LS446N
pins: 1 ~{OEBA} (in), 2 A1 (io), 3 DIR2 (in), 4 A2 (io), 5 A3 (io), 6 DIR3 (in), 7 A4 (io), 8 GND (power), 9 B4 (io), 10 DIR4 (in), 11 B3 (io), 12 B2 (io), 13 DIR1 (in), 14 B1 (io), 15 ~{OEAB} (in), 16 VCC (power)

## SN74LS449D
designator U?
Quadruple Bus Transceiver with Individual Direction Controls; ComponentAvailability: Obsolete; Published: 8-Jun-2000; LatestRevisionDate: 13-Apr-2006; LatestRevisionNote: IPC-7351 Footprint Added.; DatasheetVersion: Mar-1988; PackageVersion: Jan-1998; PackageReference: D016; Publisher: Altium Limited; PackageDescription: 16-Pin Small Outline Integrated Circuit 1.27 mm Pitch; Code_IPC: SOIC127P600-16; ComponentLink1Description: Manufacturer Link; ComponentLink1URL: http://www.ti.com/; ComponentLink2Description: Datasheet; ComponentLink2URL: http://www-s.ti.com/sc/ds/sn74ls446.pdf; ComponentLink3Description: Discontinuation Notice; ComponentLink3URL: http://focus.ti.com/docs/prod/folders/print/sn74ls449.html
footprint D016_N (SOIC, 16-Leads, Body 9.9x3.9mm, Pitch 1.27mm, IPC Medium Density)
footprint D016_L (SOIC, 16-Leads, Body 9.9x3.9mm, Pitch 1.27mm, IPC High Density)
footprint D016_M (SOIC, 16-Leads, Body 9.9x3.9mm, Pitch 1.27mm, IPC Low Density)
3D model D016 (16-Pin Small Outline Integrated Circuit 1.27 mm Pitch)
signal-integrity model SN74LS449D
pins: 1 ~{OEBA} (in), 2 A1 (io), 3 DIR2 (in), 4 A2 (io), 5 A3 (io), 6 DIR3 (in), 7 A4 (io), 8 GND (power), 9 B4 (io), 10 DIR4 (in), 11 B3 (io), 12 B2 (io), 13 DIR1 (in), 14 B1 (io), 15 ~{OEAB} (in), 16 VCC (power)

## SN74LS449N
designator U?
Quadruple Bus Transceiver with Individual Direction Controls; ComponentAvailability: Obsolete; Published: 8-Jun-2000; LatestRevisionDate: 04-Mar-2005; LatestRevisionNote: Stylized 3D Model Added.; DatasheetVersion: Mar-1988; PackageVersion: Oct-1995; PackageReference: N016; Publisher: Altium Limited; PackageDescription: DIP; 16 Leads; Row Spacing 7.62 mm; Pitch 2.54 mm; Code_JEDEC: MS-001-BB; ComponentLink1Description: Manufacturer Link; ComponentLink1URL: http://www.ti.com/; ComponentLink2Description: Datasheet; ComponentLink2URL: http://www-s.ti.com/sc/ds/sn74ls446.pdf; ComponentLink3Description: Discontinuation Notice; ComponentLink3URL: http://focus.ti.com/docs/prod/folders/print/sn74ls449.html
footprint N016 (DIP; 16 Leads; Row Spacing 7.62 mm; Pitch 2.54 mm)
3D model N016 (DIP; 16 Leads; Row Spacing 7.62 mm; Pitch 2.54 mm)
signal-integrity model SN74LS449N
pins: 1 ~{OEBA} (in), 2 A1 (io), 3 DIR2 (in), 4 A2 (io), 5 A3 (io), 6 DIR3 (in), 7 A4 (io), 8 GND (power), 9 B4 (io), 10 DIR4 (in), 11 B3 (io), 12 B2 (io), 13 DIR1 (in), 14 B1 (io), 15 ~{OEAB} (in), 16 VCC (power)

## SN74LVC861DB
designator U?
10-Bit Bus Transceiver with 3-State Outputs; Published: 8-Jun-2000; LatestRevisionDate: 04-Mar-2005; LatestRevisionNote: Stylized 3D Model Added.; DatasheetVersion: Jul-1995; PackageVersion: May-1999; PackageReference: DB024; Publisher: Altium Limited; PackageDescription: SSOP, Plastic; 24 Leads; Body Width 5.3 mm; Pitch 0.65 mm; Code_JEDEC: MO-150-AG; ComponentLink1Description: Manufacturer Link; ComponentLink1URL: http://www.ti.com/
footprint DB024 (SSOP, Plastic; 24 Leads; Body Width 5.3 mm; Pitch 0.65 mm)
3D model DB024 (SSOP, Plastic; 24 Leads; Body Width 5.3 mm; Pitch 0.65 mm)
signal-integrity model SN74LVC861DB
pins: 1 ~{OEBA} (in), 2 A1 (io), 3 A2 (io), 4 A3 (io), 5 A4 (io), 6 A5 (io), 7 A6 (io), 8 A7 (io), 9 A8 (io), 10 A9 (io), 11 A10 (io), 12 GND (power), 13 ~{OEAB} (in), 14 B10 (io), 15 B9 (io), 16 B8 (io), 17 B7 (io), 18 B6 (io), 19 B5 (io), 20 B4 (io), 21 B3 (io), 22 B2 (io), 23 B1 (io), 24 VCC (power)

## SN74LVC861DBLE
designator U?
10-Bit Bus Transceiver with 3-State Outputs; ComponentAvailability: Obsolete; Published: 8-Jun-2000; LatestRevisionDate: 04-Mar-2005; LatestRevisionNote: Stylized 3D Model Added.; DatasheetVersion: Jul-1995; PackageVersion: May-1999; PackageReference: DB024; Publisher: Altium Limited; PackageDescription: SSOP, Plastic; 24 Leads; Body Width 5.3 mm; Pitch 0.65 mm; Code_JEDEC: MO-150-AG; ComponentLink1Description: Manufacturer Link; ComponentLink1URL: http://www.ti.com/; ComponentLink2Description: Discontinuation Notice; ComponentLink2URL: http://focus.ti.com/docs/prod/folders/print/sn74lvc861.html
footprint DB024 (SSOP, Plastic; 24 Leads; Body Width 5.3 mm; Pitch 0.65 mm)
3D model DB024 (SSOP, Plastic; 24 Leads; Body Width 5.3 mm; Pitch 0.65 mm)
signal-integrity model SN74LVC861DBLE
pins: 1 ~{OEBA} (in), 2 A1 (io), 3 A2 (io), 4 A3 (io), 5 A4 (io), 6 A5 (io), 7 A6 (io), 8 A7 (io), 9 A8 (io), 10 A9 (io), 11 A10 (io), 12 GND (power), 13 ~{OEAB} (in), 14 B10 (io), 15 B9 (io), 16 B8 (io), 17 B7 (io), 18 B6 (io), 19 B5 (io), 20 B4 (io), 21 B3 (io), 22 B2 (io), 23 B1 (io), 24 VCC (power)

## SN74LVC861DW
designator U?
10-Bit Bus Transceiver with 3-State Outputs; ComponentAvailability: Obsolete; Published: 8-Jun-2000; LatestRevisionDate: 13-Apr-2006; LatestRevisionNote: IPC-7351 Footprint Added.; DatasheetVersion: Jul-1995; PackageVersion: Mar-2000; PackageReference: DW024; Publisher: Altium Limited; PackageDescription: 24-Pin Plastic Small Outline Integrated Circuit 1.27 mm Pitch; Code_JEDEC: MS-013; ComponentLink1Description: Manufacturer Link; ComponentLink1URL: http://www.ti.com/; ComponentLink2Description: Discontinuation Notice; ComponentLink2URL: http://focus.ti.com/docs/prod/folders/print/sn74lvc861.html
footprint DW024_N (SOIC, 24-Leads, Body 15.4x7.5mm, Pitch 1.27mm, IPC Medium Density)
footprint DW024_L (SOIC, 24-Leads, Body 15.4x7.5mm, Pitch 1.27mm, IPC High Density)
footprint DW024_M (SOIC, 24-Leads, Body 15.4x7.5mm, Pitch 1.27mm, IPC Low Density)
3D model DW024 (24-Pin Plastic Small Outline Integrated Circuit 1.27 mm Pitch)
signal-integrity model SN74LVC861DW
pins: 1 ~{OEBA} (in), 2 A1 (io), 3 A2 (io), 4 A3 (io), 5 A4 (io), 6 A5 (io), 7 A6 (io), 8 A7 (io), 9 A8 (io), 10 A9 (io), 11 A10 (io), 12 GND (power), 13 ~{OEAB} (in), 14 B10 (io), 15 B9 (io), 16 B8 (io), 17 B7 (io), 18 B6 (io), 19 B5 (io), 20 B4 (io), 21 B3 (io), 22 B2 (io), 23 B1 (io), 24 VCC (power)

## SN74LVC861PW
designator U?
10-Bit Bus Transceiver with 3-State Outputs; Published: 8-Jun-2000; LatestRevisionDate: 04-Mar-2005; LatestRevisionNote: Stylized 3D Model Added.; DatasheetVersion: Jul-1995; PackageVersion: Feb-1999; PackageReference: PW024; Publisher: Altium Limited; PackageDescription: Shrink Small Outline; 24 Leads; Body Width 4.4 mm; Pitch 0.65 mm; ComponentLink1Description: Manufacturer Link; ComponentLink1URL: http://www.ti.com/
footprint PW024 (Shrink Small Outline; 24 Leads; Body Width 4.4 mm; Pitch 0.65 mm)
3D model PW024 (Shrink Small Outline; 24 Leads; Body Width 4.4 mm; Pitch 0.65 mm)
signal-integrity model SN74LVC861PW
pins: 1 ~{OEBA} (in), 2 A1 (io), 3 A2 (io), 4 A3 (io), 5 A4 (io), 6 A5 (io), 7 A6 (io), 8 A7 (io), 9 A8 (io), 10 A9 (io), 11 A10 (io), 12 GND (power), 13 ~{OEAB} (in), 14 B10 (io), 15 B9 (io), 16 B8 (io), 17 B7 (io), 18 B6 (io), 19 B5 (io), 20 B4 (io), 21 B3 (io), 22 B2 (io), 23 B1 (io), 24 VCC (power)

## SN74LVC861PWLE
designator U?
10-Bit Bus Transceiver with 3-State Outputs; ComponentAvailability: Obsolete; Published: 8-Jun-2000; LatestRevisionDate: 04-Mar-2005; LatestRevisionNote: Stylized 3D Model Added.; DatasheetVersion: Jul-1995; PackageVersion: Feb-1999; PackageReference: PW024; Publisher: Altium Limited; PackageDescription: Shrink Small Outline; 24 Leads; Body Width 4.4 mm; Pitch 0.65 mm; ComponentLink1Description: Manufacturer Link; ComponentLink1URL: http://www.ti.com/; ComponentLink2Description: Discontinuation Notice; ComponentLink2URL: http://focus.ti.com/docs/prod/folders/print/sn74lvc861.html
footprint PW024 (Shrink Small Outline; 24 Leads; Body Width 4.4 mm; Pitch 0.65 mm)
3D model PW024 (Shrink Small Outline; 24 Leads; Body Width 4.4 mm; Pitch 0.65 mm)
signal-integrity model SN74LVC861PWLE
pins: 1 ~{OEBA} (in), 2 A1 (io), 3 A2 (io), 4 A3 (io), 5 A4 (io), 6 A5 (io), 7 A6 (io), 8 A7 (io), 9 A8 (io), 10 A9 (io), 11 A10 (io), 12 GND (power), 13 ~{OEAB} (in), 14 B10 (io), 15 B9 (io), 16 B8 (io), 17 B7 (io), 18 B6 (io), 19 B5 (io), 20 B4 (io), 21 B3 (io), 22 B2 (io), 23 B1 (io), 24 VCC (power)

## SN74LVC863ADBLE
designator U?
9-Bit Bus Transceiver with 3-State Outputs; ComponentAvailability: Obsolete; Published: 8-Jun-2000; LatestRevisionDate: 04-Mar-2005; LatestRevisionNote: Stylized 3D Model Added.; DatasheetVersion: Jun-1998; PackageVersion: May-1999; PackageReference: DB024; Publisher: Altium Limited; PackageDescription: SSOP, Plastic; 24 Leads; Body Width 5.3 mm; Pitch 0.65 mm; Code_JEDEC: MO-150-AG; ComponentLink1Description: Manufacturer Link; ComponentLink1URL: http://www.ti.com/; ComponentLink2Description: Datasheet; ComponentLink2URL: http://www-s.ti.com/sc/ds/sn74lvc863a.pdf
footprint DB024 (SSOP, Plastic; 24 Leads; Body Width 5.3 mm; Pitch 0.65 mm)
3D model DB024 (SSOP, Plastic; 24 Leads; Body Width 5.3 mm; Pitch 0.65 mm)
signal-integrity model SN74LVC863ADBLE
pins: 1 ~{OEBA}~{1} (in), 2 A1 (io), 3 A2 (io), 4 A3 (io), 5 A4 (io), 6 A5 (io), 7 A6 (io), 8 A7 (io), 9 A8 (io), 10 A9 (io), 11 ~{OEBA}~{2} (in), 12 GND (power), 13 ~{OEAB}~{1} (in), 14 ~{OEAB}~{2} (in), 15 B9 (io), 16 B8 (io), 17 B7 (io), 18 B6 (io), 19 B5 (io), 20 B4 (io), 21 B3 (io), 22 B2 (io), 23 B1 (io), 24 VCC (power)

## SN74LVC863ADW
designator U?
9-Bit Bus Transceiver with 3-State Outputs; Published: 8-Jun-2000; LatestRevisionDate: 13-Apr-2006; LatestRevisionNote: IPC-7351 Footprint Added.; DatasheetVersion: Jun-1998; PackageVersion: Mar-2000; PackageReference: DW024; Publisher: Altium Limited; PackageDescription: 24-Pin Plastic Small Outline Integrated Circuit 1.27 mm Pitch; Code_JEDEC: MS-013; ComponentLink1Description: Manufacturer Link; ComponentLink1URL: http://www.ti.com/; ComponentLink2Description: Datasheet; ComponentLink2URL: http://www-s.ti.com/sc/ds/sn74lvc863a.pdf
footprint DW024_N (SOIC, 24-Leads, Body 15.4x7.5mm, Pitch 1.27mm, IPC Medium Density)
footprint DW024_L (SOIC, 24-Leads, Body 15.4x7.5mm, Pitch 1.27mm, IPC High Density)
footprint DW024_M (SOIC, 24-Leads, Body 15.4x7.5mm, Pitch 1.27mm, IPC Low Density)
3D model DW024 (24-Pin Plastic Small Outline Integrated Circuit 1.27 mm Pitch)
signal-integrity model SN74LVC863ADW
pins: 1 ~{OEBA}~{1} (in), 2 A1 (io), 3 A2 (io), 4 A3 (io), 5 A4 (io), 6 A5 (io), 7 A6 (io), 8 A7 (io), 9 A8 (io), 10 A9 (io), 11 ~{OEBA}~{2} (in), 12 GND (power), 13 ~{OEAB}~{1} (in), 14 ~{OEAB}~{2} (in), 15 B9 (io), 16 B8 (io), 17 B7 (io), 18 B6 (io), 19 B5 (io), 20 B4 (io), 21 B3 (io), 22 B2 (io), 23 B1 (io), 24 VCC (power)

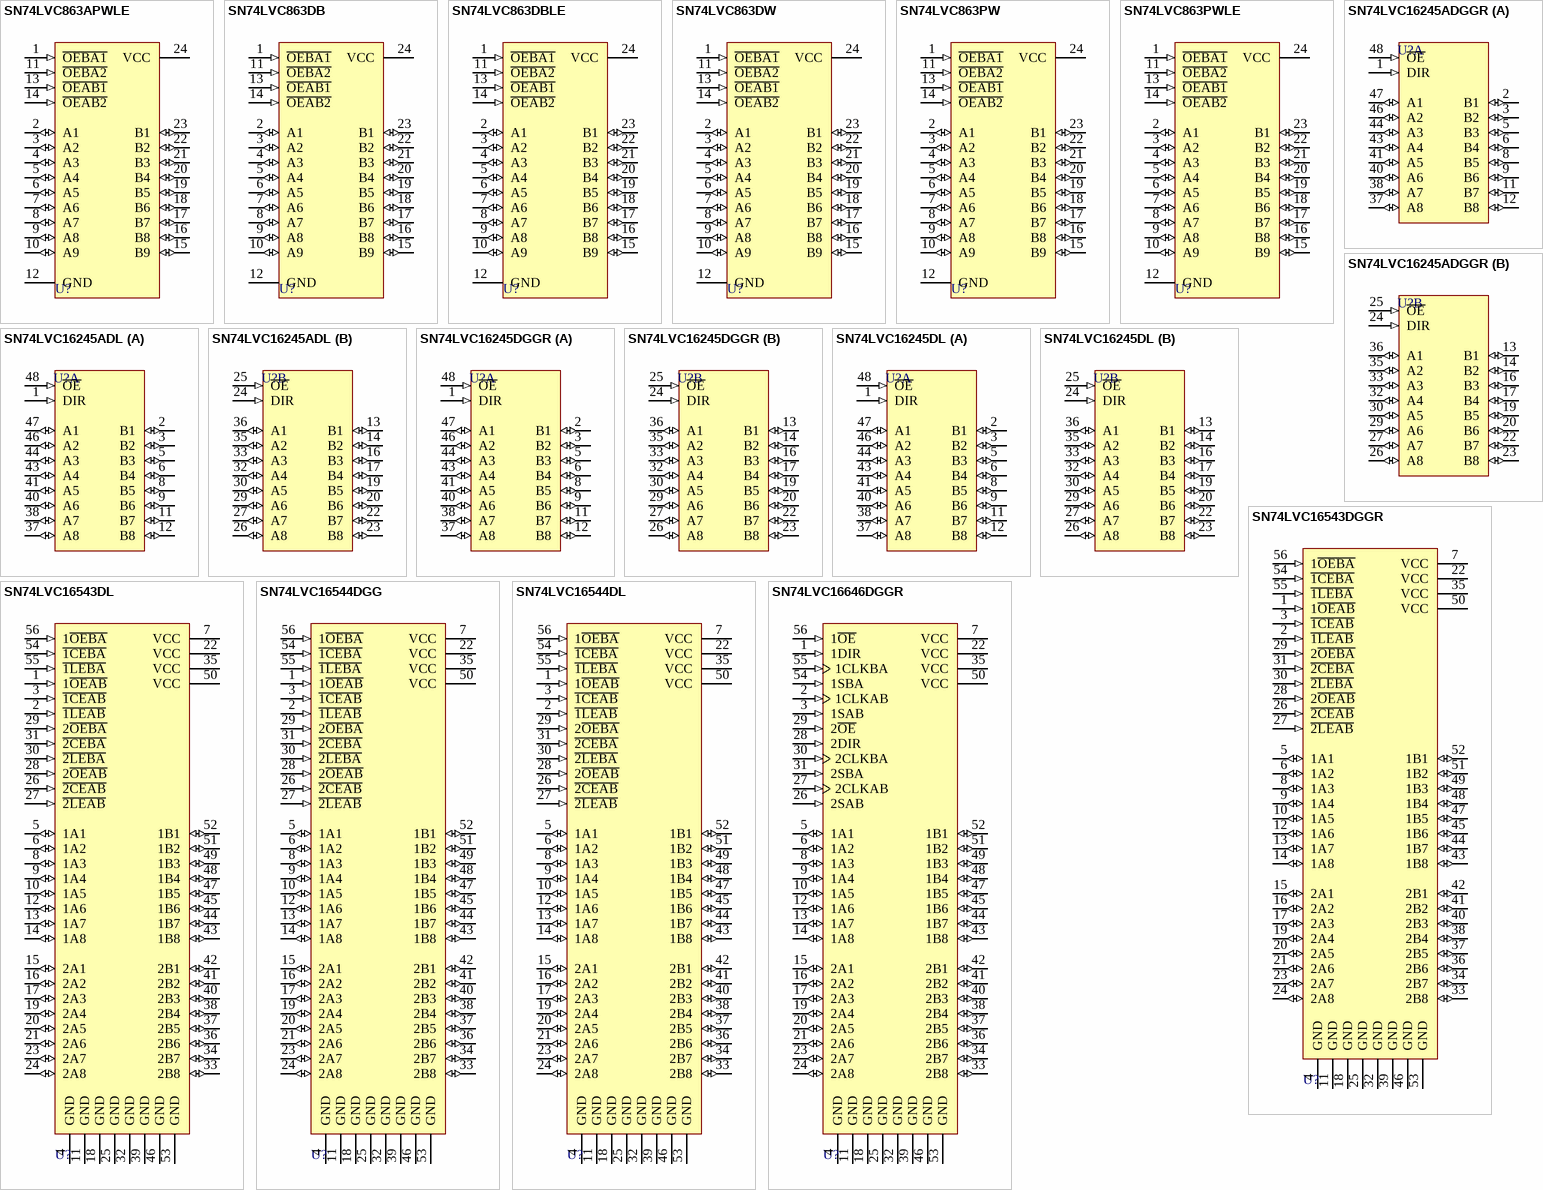
[diagram p25: symbols SN74LVC863APWLE to SN74LVC16646DGGR]

## SN74LVC863APWLE
designator U?
9-Bit Bus Transceiver with 3-State Outputs; ComponentAvailability: Obsolete; Published: 8-Jun-2000; LatestRevisionDate: 04-Mar-2005; LatestRevisionNote: Stylized 3D Model Added.; DatasheetVersion: Jun-1998; PackageVersion: Feb-1999; PackageReference: PW024; Publisher: Altium Limited; PackageDescription: Shrink Small Outline; 24 Leads; Body Width 4.4 mm; Pitch 0.65 mm; ComponentLink1Description: Manufacturer Link; ComponentLink1URL: http://www.ti.com/; ComponentLink2Description: Datasheet; ComponentLink2URL: http://www-s.ti.com/sc/ds/sn74lvc863a.pdf
footprint PW024 (Shrink Small Outline; 24 Leads; Body Width 4.4 mm; Pitch 0.65 mm)
3D model PW024 (Shrink Small Outline; 24 Leads; Body Width 4.4 mm; Pitch 0.65 mm)
signal-integrity model SN74LVC863APWLE
pins: 1 ~{OEBA}~{1} (in), 2 A1 (io), 3 A2 (io), 4 A3 (io), 5 A4 (io), 6 A5 (io), 7 A6 (io), 8 A7 (io), 9 A8 (io), 10 A9 (io), 11 ~{OEBA}~{2} (in), 12 GND (power), 13 ~{OEAB}~{1} (in), 14 ~{OEAB}~{2} (in), 15 B9 (io), 16 B8 (io), 17 B7 (io), 18 B6 (io), 19 B5 (io), 20 B4 (io), 21 B3 (io), 22 B2 (io), 23 B1 (io), 24 VCC (power)

## SN74LVC863DB
designator U?
9-Bit Bus Transceiver with 3-State Outputs; Published: 8-Jun-2000; LatestRevisionDate: 04-Mar-2005; LatestRevisionNote: Stylized 3D Model Added.; DatasheetVersion: Jul-1995; PackageVersion: May-1999; PackageReference: DB024; Publisher: Altium Limited; PackageDescription: SSOP, Plastic; 24 Leads; Body Width 5.3 mm; Pitch 0.65 mm; Code_JEDEC: MO-150-AG; ComponentLink1Description: Manufacturer Link; ComponentLink1URL: http://www.ti.com/
footprint DB024 (SSOP, Plastic; 24 Leads; Body Width 5.3 mm; Pitch 0.65 mm)
3D model DB024 (SSOP, Plastic; 24 Leads; Body Width 5.3 mm; Pitch 0.65 mm)
signal-integrity model SN74LVC863DB
pins: 1 ~{OEBA}~{1} (in), 2 A1 (io), 3 A2 (io), 4 A3 (io), 5 A4 (io), 6 A5 (io), 7 A6 (io), 8 A7 (io), 9 A8 (io), 10 A9 (io), 11 ~{OEBA}~{2} (in), 12 GND (power), 13 ~{OEAB}~{1} (in), 14 ~{OEAB}~{2} (in), 15 B9 (io), 16 B8 (io), 17 B7 (io), 18 B6 (io), 19 B5 (io), 20 B4 (io), 21 B3 (io), 22 B2 (io), 23 B1 (io), 24 VCC (power)

## SN74LVC863DBLE
designator U?
9-Bit Bus Transceiver with 3-State Outputs; ComponentAvailability: Obsolete; Published: 8-Jun-2000; LatestRevisionDate: 04-Mar-2005; LatestRevisionNote: Stylized 3D Model Added.; DatasheetVersion: Jul-1995; PackageVersion: May-1999; PackageReference: DB024; Publisher: Altium Limited; PackageDescription: SSOP, Plastic; 24 Leads; Body Width 5.3 mm; Pitch 0.65 mm; Code_JEDEC: MO-150-AG; ComponentLink1Description: Manufacturer Link; ComponentLink1URL: http://www.ti.com/; ComponentLink2Description: Discontinuation Notice; ComponentLink2URL: http://focus.ti.com/docs/prod/folders/print/sn74lvc863.html
footprint DB024 (SSOP, Plastic; 24 Leads; Body Width 5.3 mm; Pitch 0.65 mm)
3D model DB024 (SSOP, Plastic; 24 Leads; Body Width 5.3 mm; Pitch 0.65 mm)
signal-integrity model SN74LVC863DBLE
pins: 1 ~{OEBA}~{1} (in), 2 A1 (io), 3 A2 (io), 4 A3 (io), 5 A4 (io), 6 A5 (io), 7 A6 (io), 8 A7 (io), 9 A8 (io), 10 A9 (io), 11 ~{OEBA}~{2} (in), 12 GND (power), 13 ~{OEAB}~{1} (in), 14 ~{OEAB}~{2} (in), 15 B9 (io), 16 B8 (io), 17 B7 (io), 18 B6 (io), 19 B5 (io), 20 B4 (io), 21 B3 (io), 22 B2 (io), 23 B1 (io), 24 VCC (power)

## SN74LVC863DW
designator U?
9-Bit Bus Transceiver with 3-State Outputs; ComponentAvailability: Obsolete; Published: 8-Jun-2000; LatestRevisionDate: 13-Apr-2006; LatestRevisionNote: IPC-7351 Footprint Added.; DatasheetVersion: Jul-1995; PackageVersion: Mar-2000; PackageReference: DW024; Publisher: Altium Limited; PackageDescription: 24-Pin Plastic Small Outline Integrated Circuit 1.27 mm Pitch; Code_JEDEC: MS-013; ComponentLink1Description: Manufacturer Link; ComponentLink1URL: http://www.ti.com/; ComponentLink2Description: Discontinuation Notice; ComponentLink2URL: http://focus.ti.com/docs/prod/folders/print/sn74lvc863.html
footprint DW024_N (SOIC, 24-Leads, Body 15.4x7.5mm, Pitch 1.27mm, IPC Medium Density)
footprint DW024_L (SOIC, 24-Leads, Body 15.4x7.5mm, Pitch 1.27mm, IPC High Density)
footprint DW024_M (SOIC, 24-Leads, Body 15.4x7.5mm, Pitch 1.27mm, IPC Low Density)
3D model DW024 (24-Pin Plastic Small Outline Integrated Circuit 1.27 mm Pitch)
signal-integrity model SN74LVC863DW
pins: 1 ~{OEBA}~{1} (in), 2 A1 (io), 3 A2 (io), 4 A3 (io), 5 A4 (io), 6 A5 (io), 7 A6 (io), 8 A7 (io), 9 A8 (io), 10 A9 (io), 11 ~{OEBA}~{2} (in), 12 GND (power), 13 ~{OEAB}~{1} (in), 14 ~{OEAB}~{2} (in), 15 B9 (io), 16 B8 (io), 17 B7 (io), 18 B6 (io), 19 B5 (io), 20 B4 (io), 21 B3 (io), 22 B2 (io), 23 B1 (io), 24 VCC (power)

## SN74LVC863PW
designator U?
9-Bit Bus Transceiver with 3-State Outputs; Published: 8-Jun-2000; LatestRevisionDate: 04-Mar-2005; LatestRevisionNote: Stylized 3D Model Added.; DatasheetVersion: Jul-1995; PackageVersion: Feb-1999; PackageReference: PW024; Publisher: Altium Limited; PackageDescription: Shrink Small Outline; 24 Leads; Body Width 4.4 mm; Pitch 0.65 mm; ComponentLink1Description: Manufacturer Link; ComponentLink1URL: http://www.ti.com/
footprint PW024 (Shrink Small Outline; 24 Leads; Body Width 4.4 mm; Pitch 0.65 mm)
3D model PW024 (Shrink Small Outline; 24 Leads; Body Width 4.4 mm; Pitch 0.65 mm)
signal-integrity model SN74LVC863PW
pins: 1 ~{OEBA}~{1} (in), 2 A1 (io), 3 A2 (io), 4 A3 (io), 5 A4 (io), 6 A5 (io), 7 A6 (io), 8 A7 (io), 9 A8 (io), 10 A9 (io), 11 ~{OEBA}~{2} (in), 12 GND (power), 13 ~{OEAB}~{1} (in), 14 ~{OEAB}~{2} (in), 15 B9 (io), 16 B8 (io), 17 B7 (io), 18 B6 (io), 19 B5 (io), 20 B4 (io), 21 B3 (io), 22 B2 (io), 23 B1 (io), 24 VCC (power)

## SN74LVC863PWLE
designator U?
9-Bit Bus Transceiver with 3-State Outputs; ComponentAvailability: Obsolete; Published: 8-Jun-2000; LatestRevisionDate: 04-Mar-2005; LatestRevisionNote: Stylized 3D Model Added.; DatasheetVersion: Jul-1995; PackageVersion: Feb-1999; PackageReference: PW024; Publisher: Altium Limited; PackageDescription: Shrink Small Outline; 24 Leads; Body Width 4.4 mm; Pitch 0.65 mm; ComponentLink1Description: Manufacturer Link; ComponentLink1URL: http://www.ti.com/; ComponentLink2Description: Discontinuation Notice; ComponentLink2URL: http://focus.ti.com/docs/prod/folders/print/sn74lvc863.html
footprint PW024 (Shrink Small Outline; 24 Leads; Body Width 4.4 mm; Pitch 0.65 mm)
3D model PW024 (Shrink Small Outline; 24 Leads; Body Width 4.4 mm; Pitch 0.65 mm)
signal-integrity model SN74LVC863PWLE
pins: 1 ~{OEBA}~{1} (in), 2 A1 (io), 3 A2 (io), 4 A3 (io), 5 A4 (io), 6 A5 (io), 7 A6 (io), 8 A7 (io), 9 A8 (io), 10 A9 (io), 11 ~{OEBA}~{2} (in), 12 GND (power), 13 ~{OEAB}~{1} (in), 14 ~{OEAB}~{2} (in), 15 B9 (io), 16 B8 (io), 17 B7 (io), 18 B6 (io), 19 B5 (io), 20 B4 (io), 21 B3 (io), 22 B2 (io), 23 B1 (io), 24 VCC (power)